# Altium schematic symbol library AC_IN_SH.SchLib: 1 symbol
Pins are listed as number, name and electrical type; pins without a type are passive.

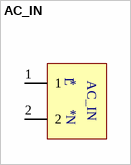
[diagram p0: symbol AC_IN]

## AC_IN
designator *
footprint AC_IN
pins: 1, 2
text: L; N